# EAGLE library part XLATOR_4B (library !GPLIB_ACTIVE)
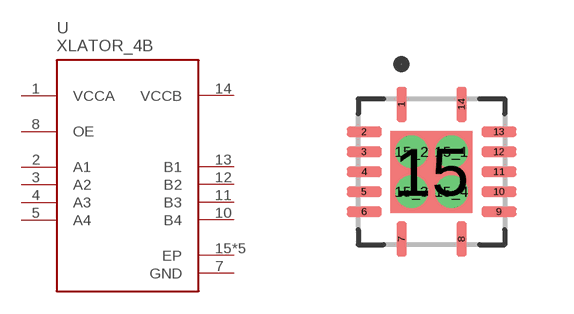
[diagram p20: symbol with the pads of QFN50P350X350X100-15N; footprint QFN50P350X350X100-15N]

Designator prefix U

## XLATOR_4B_UM3204Q  [QFN50P350X350X100-15N]
1  VCCA  pwr
2  A1
3  A2
4  A3
5  A4
7  GND  pwr
8  OE  in
10  B4
11  B3
12  B2
13  B1
14  VCCB  pwr
15  EP  pwr
15_1  EP  pwr
15_2  EP  pwr
15_3  EP  pwr
15_4  EP  pwr

## Footprint QFN50P350X350X100-15N (pad centres in mm)
smd 0.26 x 0.88: 1 -0.75,1.685; 7 -0.75,-1.685; 8 0.75,-1.685; 14 0.75,1.685
smd 0.88 x 0.26: 2 -1.685,1; 3 -1.685,0.5; 4 -1.685,0; 5 -1.685,-0.5; 6 -1.685,-1; 9 1.685,-1; 10 1.685,-0.5; 11 1.685,0; 12 1.685,0.5; 13 1.685,1
smd 2.05 x 2.05: 15 0,0
drill 0.3 pad 0.4: 15_1 0.5,0.5; 15_2 -0.5,0.5; 15_3 -0.5,-0.5; 15_4 0.5,-0.5